# EAGLE library part PINHD-2X3 (library laforge)
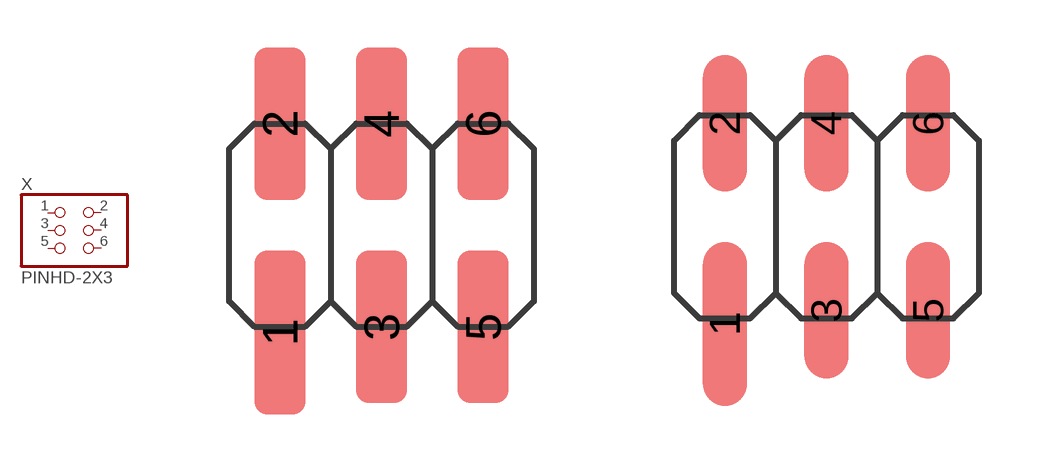
[diagram p43: symbol with the pads of 2X03_SMD_180; footprints 2X03_SMD_180, 2X03_SMD_180_SP]

Designator prefix X

## PINHD-2X3  [2X03_SMD_180]
1  1  pas
2  2  pas
3  3  pas
4  4  pas
5  5  pas
6  6  pas

## PINHD-2X3-SP  [2X03_SMD_180_SP]
Pads as for 2X03_SMD_180

## Footprint 2X03_SMD_180 (pad centres in mm)
smd 1.27 x 4.1: 1 -2.54,-2.68
smd 1.27 x 3.81: 2 -2.54,2.54; 3 0,-2.54; 4 0,2.54; 5 2.54,-2.54; 6 2.54,2.54

## Footprint 2X03_SMD_180_SP (pad centres in mm)
smd 1.1 x 4.1: 1 -2.54,-2.68
smd 1.1 x 3.41: 2 -2.54,2.34; 3 0,-2.34; 4 0,2.34; 5 2.54,-2.34; 6 2.54,2.34